# EAGLE library part USBLC6-2 (library greg)
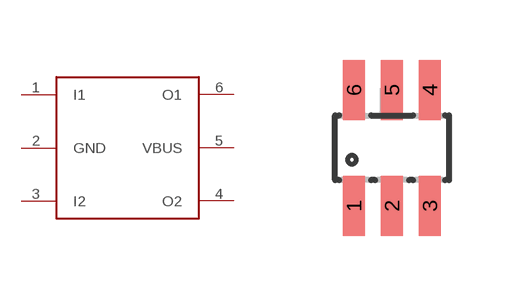
[diagram p12: symbol with the pads of SOT23-6; footprint SOT23-6]

Designator prefix -

## USBLC6-2SOT-23-6  [SOT23-6]
1  I1
2  GND
3  I2
4  O2
5  VBUS
6  O1

## Footprint SOT23-6 (pad centres in mm)
smd 0.55 x 1.5: 1 -0.95,-1.45; 2 0,-1.45; 3 0.95,-1.45; 4 0.95,1.45; 5 0,1.45; 6 -0.95,1.45